# Altium schematic symbol library Booster.SCHLIB: 7 symbols
Pins are listed as number, name and electrical type; pins without a type are passive.

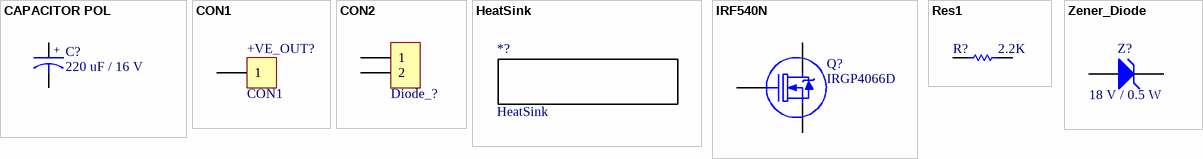
[diagram p0: symbols CAPACITOR POL to Zener_Diode]

## CAPACITOR POL
designator C?, comment 220 uF / 16 V
Electrolytic Capacitors; SMD/TH: TH; DPM/VM/AM: DPM, VM, AM
footprint CAP-1
footprint CAP-1.5
footprint CAP-2
footprint CAP-25
footprint DC-CAPACITOR
pins: 1, 2
text: +

## CON1
designator +VE_OUT?
Connector; SMD/TH: TH
footprint SIP1 (Connector 1)
footprint SIP2
footprint TB2 - V (Terminal Block Vertical)
footprint TB2-WITH_SCREWS (TB2-with_screws_Straight)
footprint Terminal
footprint WIRE6MM
pins: 1

## CON2
designator Diode_?, comment Plugable_2Pin  (value not drawn)
Connector; SMD/TH: TH
footprint TB2 (Terminal Block Straight)
footprint SIP2
footprint TB2 - V (Terminal Block Vertical)
footprint TB2-WITH_SCREWS (TB2-with_screws_Straight)
footprint Terminal
pins: 1, 2

## HeatSink
designator *?
footprint HeatSink

## IRF540N
designator Q?, comment IRGP4066D
N-Channel MOSFET; Published: 8-Jun-2000; LatestRevisionDate: 17-Jul-2002; LatestRevisionNote: Re-released for DXP Platform.; PackageVersion: 1995/1996; PackageReference: E3; Publisher: Altium Limited; PackageDescription: TO, Flat Index; 3 In-Line, Axial Leads; Body Dia. 4.6mm; Lead Dia. 0.5 mm (max)
simulation model NMOS (MOSFET-N)
footprint TO247
pins: C, E, G

## Res1
designator R?  value 2.2K  (hidden comment: Res1)
Resistor; Published: 8-Jun-2000; LatestRevisionDate: 17-Jul-2002; LatestRevisionNote: Re-released for DXP Platform.; PackageReference: AXIAL-0.3; Publisher: Altium Limited; PackageDescription: Axial Device, Thru-Hole; 2 Leads; 0.3 in Pin Spacing
footprint AXIAL-0.3 (Axial Device, Thru-Hole; 2 Leads; 0.3 in Pin Spacing)
simulation model RESISTOR (Resistor)
signal-integrity model Res
pins: 1, 2

## Zener_Diode
designator Z?, comment 18 V / 0.5 W
Zener diode; SMD/TH: SMD
footprint SOD123 (SOD-123; 2 Leads; Body 2.7 x 1.6 mm, (LxW))
footprint D3
pins: A, K